# Altium footprint library PcbLib1.PcbLib: 1 footprints
Each footprint in its own frame and in the unit in brackets; x right, y up, seen from the top. Pads: shape width x height; smd on the part's side, far side on the other; paste and mask are expansions set on the pad; w line width, h text height; cw(c..) or ccw(c..) is an arc to the next point about the centre after c.
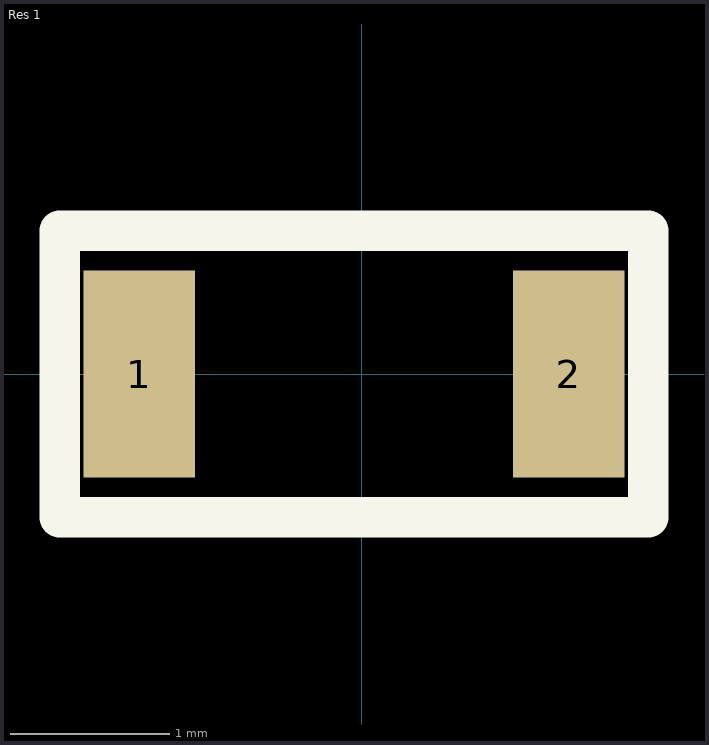
[diagram p0: the footprint, top view; thin cyan lines are the x and y axes]

## Res 1 [mm]
pads (2):
  rect 0.7x1.3 smd: 1(-1.4,0) 2(1.3,0)
Top Overlay:
  lines w0.254: -1.9,-0.9 -1.9,0.9 1.8,0.9 1.8,-0.9 -1.9,-0.9